# Altium footprint library Bourns_Inductor_Footprints.PcbLib: 1 footprints
Each footprint in its own frame and in the unit in brackets; x right, y up, seen from the top. Pads: shape width x height; smd on the part's side, far side on the other; paste and mask are expansions set on the pad; w line width, h text height; cw(c..) or ccw(c..) is an arc to the next point about the centre after c.
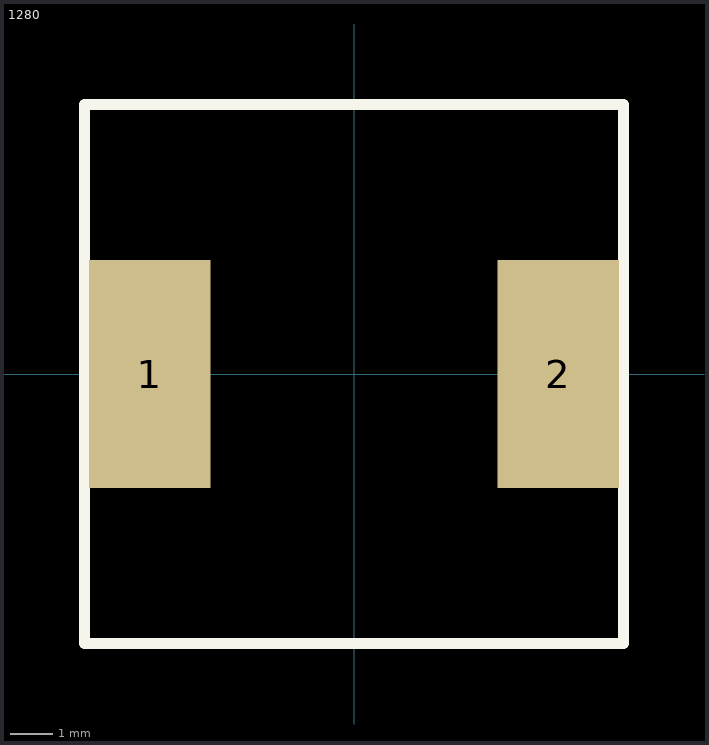
[diagram p0: the footprint, top view; thin cyan lines are the x and y axes]

## 1280 [mil] "1280 Bourns Inductor"
pads (2):
  rect 114x213 smd: 1(-191,0) 2(191,0)
Top Overlay:
  lines w10: -252,-252 -252,252 252,252 252,-252 -252,-252